# EAGLE library part 25AA640X-I/ST (library Microchip_By_element14_Batch_1)
64K SPI Bus Serial EEPROM
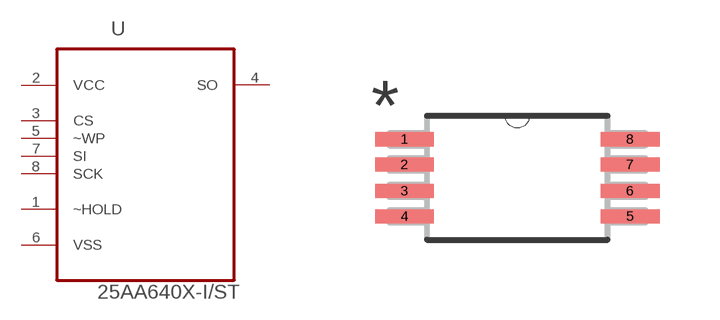
[diagram p131: symbol with the pads of SOP65P640X120-8N; footprint SOP65P640X120-8N]

Designator prefix -

## 25AA640X-I/ST (DESCRIPTION: EEPROM; MPN: 25AA640X-I/ST; OC_FARNELL: -; OC_NEWARK: 92C7382; PACKAGE: TSSOP-8; SUPPLIER: Microchip)  [SOP65P640X120-8N]
1  ~HOLD  in
2  VCC  pwr
3  CS  in
4  SO  out
5  ~WP  in
6  VSS  pas
7  SI  in
8  SCK  in

## Footprint SOP65P640X120-8N (pad centres in mm)
smd 1.473 x 0.356: 1 -2.819,0.965; 2 -2.819,0.33; 3 -2.819,-0.33; 4 -2.819,-0.965; 5 2.819,-0.965; 6 2.819,-0.33; 7 2.819,0.33; 8 2.819,0.965